# EAGLE library part 1X6_HEADER (library mkfab)
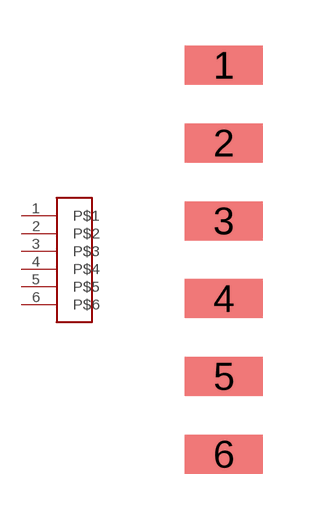
[diagram p5: symbol with the pads of 1X6_SMT; footprint 1X6_SMT]

Designator prefix -

## 1X6_HEADER  [1X6_SMT]
1  P$1
2  P$2
3  P$3
4  P$4
5  P$5
6  P$6

## Footprint 1X6_SMT (pad centres in mm)
smd 2.54 x 1.27: 1 0,6.35; 2 0,3.81; 3 0,1.27; 4 0,-1.27; 5 0,-3.81; 6 0,-6.35